# EAGLE library part ITS62* (library ic)
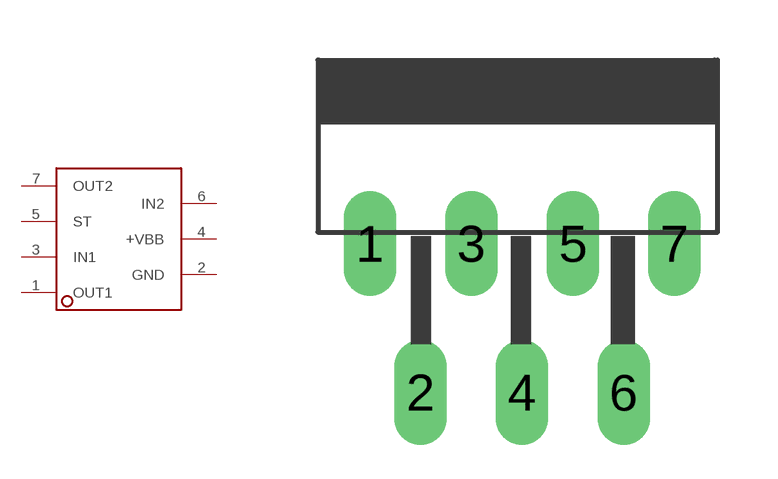
[diagram p14: symbol with the pads of ITS62*; footprint ITS62*]

Designator prefix IC

## ITS62  [ITS62*]
1  OUT1  pas
2  GND  pas
3  IN1  pas
4  +VBB  pas
5  ST  pas
6  IN2  pas
7  OUT2  pas

## Footprint ITS62* (pad centres in mm)
drill 0.8 long: 1 -1.27,3.81; 2 0,0.09; 3 1.27,3.81; 4 2.54,0.09; 5 3.81,3.81; 6 5.08,0.09; 7 6.35,3.81